# EAGLE library part CY25811SXCT (library Cypress_By_element14_Batch_1)
Spread Spectrum Clock Generator
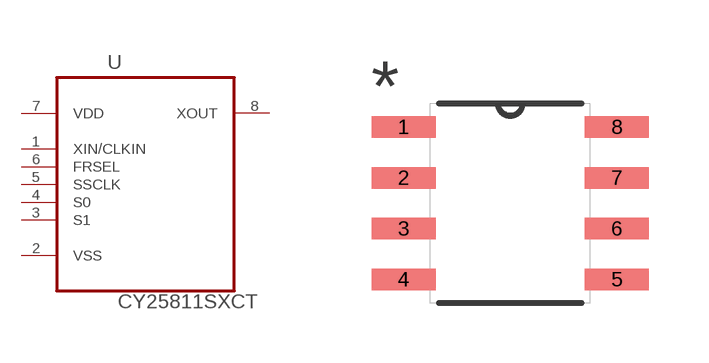
[diagram p13: symbol with the pads of SOIC127P600X172-8N; footprint SOIC127P600X172-8N]

Designator prefix U

## CY25811SXCT (DESCRIPTION: Spread Spectrum Clock Generator; MPN: CY25811SXCT; OC_FARNELL: 1876331; OC_NEWARK: 27T9402; PACKAGE: SOIC-8; SUPPLIER: CYPRESS SEMICONDUCTOR)  [SOIC127P600X172-8N]
1  XIN/CLKIN  in
2  VSS  pas
3  S1  in
4  S0  in
5  SSCLK  in
6  FRSEL  in
7  VDD  pwr
8  XOUT  out

## Footprint SOIC127P600X172-8N (pad centres in mm)
smd 1.6 x 0.533: 1 -2.667,1.905; 2 -2.667,0.635; 3 -2.667,-0.635; 4 -2.667,-1.905; 5 2.667,-1.905; 6 2.667,-0.635; 7 2.667,0.635; 8 2.667,1.905